# Altium footprint library 排针-排母.PcbLib: 177 footprints (part 11 of 12)
Each footprint in its own frame and in the unit in brackets; x right, y up, seen from the top. Pads: shape width x height; smd on the part's side, far side on the other; paste and mask are expansions set on the pad; w line width, h text height; cw(c..) or ccw(c..) is an arc to the next point about the centre after c.
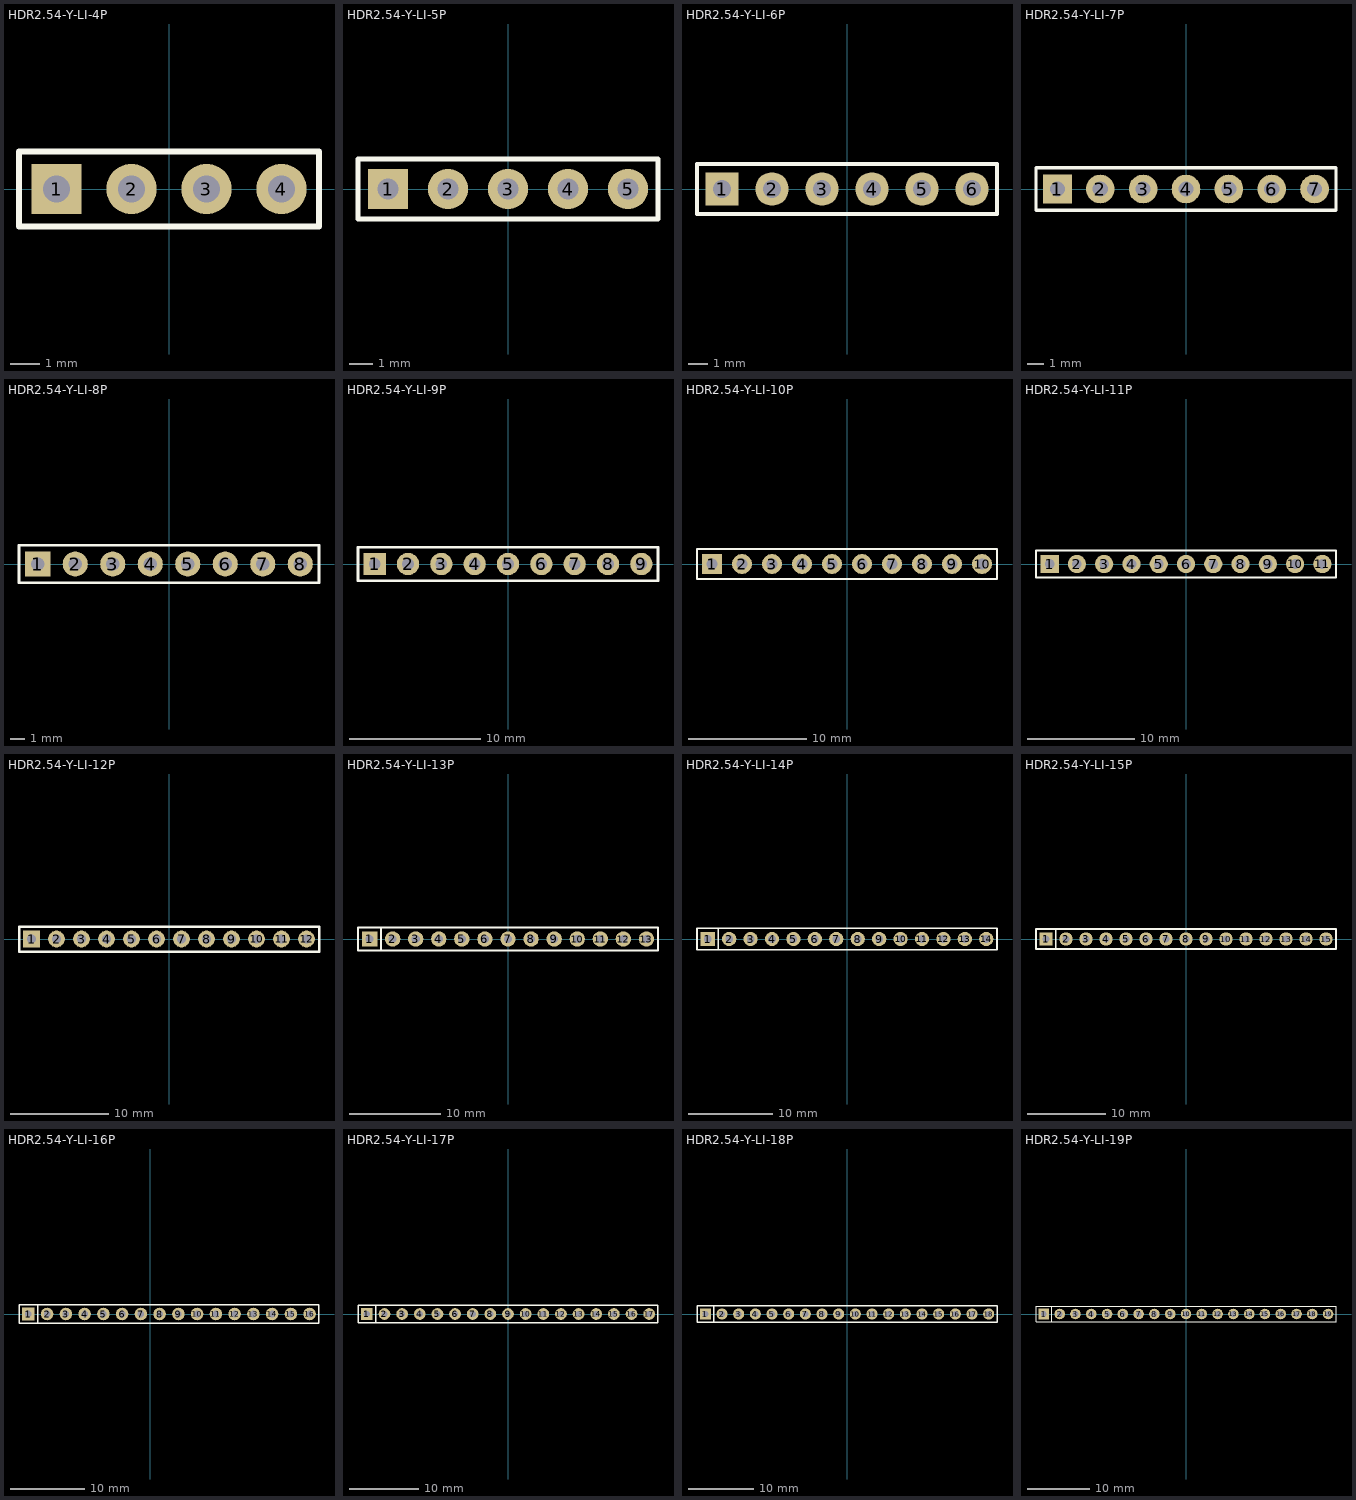
[diagram p10: the footprints below, top view; thin cyan lines are the x and y axes]

## HDR2.54-Y-LI-4P [mm] "圆孔排母，4脚"
pads (4):
  rect 1.7x1.7 hole 0.9: 1(-3.81,0)
  round 1.7 hole 0.9: 2(-1.27,0) 3(1.27,0) 4(3.81,0)
Top Overlay:
  lines w0.2: -5.08,-1.27 5.08,-1.27 5.08,1.27 -5.08,1.27 -5.08,-1.27
3D body: height 4.31, standoff -3, extent -5.08,-1.27 -2.54,1.27
3D body: height 4.31, standoff -3, extent -2.54,-1.27 0,1.27
3D body: height 4.31, standoff -3, extent 0,-1.27 2.54,1.27
3D body: height 4.31, standoff -3, extent 2.54,-1.27 5.08,1.27

## HDR2.54-Y-LI-5P [mm] "圆孔排母，5脚"
pads (5):
  rect 1.7x1.7 hole 0.9: 1(-5.08,0)
  round 1.7 hole 0.9: 2(-2.54,0) 3(0,0) 4(2.54,0) 5(5.08,0)
Top Overlay:
  lines w0.2: -6.35,-1.27 6.35,-1.27 6.35,1.27 -6.35,1.27 -6.35,-1.27
3D body: height 4.31, standoff -3, extent 3.81,-1.27 6.35,1.27
3D body: height 4.31, standoff -3, extent 1.27,-1.27 3.81,1.27
3D body: height 4.31, standoff -3, extent -1.27,-1.27 1.27,1.27
3D body: height 4.31, standoff -3, extent -3.81,-1.27 -1.27,1.27
3D body: height 4.31, standoff -3, extent -6.35,-1.27 -3.81,1.27

## HDR2.54-Y-LI-6P [mm] "圆孔排母，6脚"
pads (6):
  rect 1.7x1.7 hole 0.9: 1(-6.35,0)
  round 1.7 hole 0.9: 2(-3.81,0) 3(-1.27,0) 4(1.27,0) 5(3.81,0) 6(6.35,0)
Top Overlay:
  lines w0.2: -7.62,-1.27 7.62,-1.27 7.62,1.27 -7.62,1.27 -7.62,-1.27
3D body: height 4.31, standoff -3, extent -7.62,-1.27 -5.08,1.27
3D body: height 4.31, standoff -3, extent -5.08,-1.27 -2.54,1.27
3D body: height 4.31, standoff -3, extent -2.54,-1.27 0,1.27
3D body: height 4.31, standoff -3, extent 0,-1.27 2.54,1.27
3D body: height 4.31, standoff -3, extent 2.54,-1.27 5.08,1.27
3D body: height 4.31, standoff -3, extent 5.08,-1.27 7.62,1.27

## HDR2.54-Y-LI-7P [mm] "圆孔排母，7脚"
pads (7):
  rect 1.7x1.7 hole 0.9: 1(-7.62,0)
  round 1.7 hole 0.9: 2(-5.08,0) 3(-2.54,0) 4(0,0) 5(2.54,0) 6(5.08,0) 7(7.62,0)
Top Overlay:
  lines w0.2: -8.89,-1.27 8.89,-1.27 8.89,1.27 -8.89,1.27 -8.89,-1.27
3D body: height 4.31, standoff -3, extent -8.89,-1.27 -6.35,1.27
3D body: height 4.31, standoff -3, extent -6.35,-1.27 -3.81,1.27
3D body: height 4.31, standoff -3, extent -3.81,-1.27 -1.27,1.27
3D body: height 4.31, standoff -3, extent -1.27,-1.27 1.27,1.27
3D body: height 4.31, standoff -3, extent 1.27,-1.27 3.81,1.27
3D body: height 4.31, standoff -3, extent 3.81,-1.27 6.35,1.27
3D body: height 4.31, standoff -3, extent 6.35,-1.27 8.89,1.27

## HDR2.54-Y-LI-8P [mm] "圆孔排母，8脚"
pads (8):
  rect 1.7x1.7 hole 0.9: 1(-8.89,0)
  round 1.7 hole 0.9: 2(-6.35,0) 3(-3.81,0) 4(-1.27,0) 5(1.27,0) 6(3.81,0) 7(6.35,0) 8(8.89,0)
Top Overlay:
  lines w0.2: -10.16,-1.27 10.16,-1.27 10.16,1.27 -10.16,1.27 -10.16,-1.27
3D body: height 4.31, standoff -3, extent -10.16,-1.27 -7.62,1.27
3D body: height 4.31, standoff -3, extent -7.62,-1.27 -5.08,1.27
3D body: height 4.31, standoff -3, extent -5.08,-1.27 -2.54,1.27
3D body: height 4.31, standoff -3, extent -2.54,-1.27 0,1.27
3D body: height 4.31, standoff -3, extent 0,-1.27 2.54,1.27
3D body: height 4.31, standoff -3, extent 2.54,-1.27 5.08,1.27
3D body: height 4.31, standoff -3, extent 5.08,-1.27 7.62,1.27
3D body: height 4.31, standoff -3, extent 7.62,-1.27 10.16,1.27

## HDR2.54-Y-LI-9P [mm] "圆孔排母，9脚"
pads (9):
  rect 1.7x1.7 hole 0.9: 1(-10.16,0)
  round 1.7 hole 0.9: 2(-7.62,0) 3(-5.08,0) 4(-2.54,0) 5(0,0) 6(2.54,0) 7(5.08,0) 8(7.62,0) 9(10.16,0)
Top Overlay:
  lines w0.2: -11.43,-1.27 11.43,-1.27 11.43,1.27 -11.43,1.27 -11.43,-1.27
3D body: height 4.31, standoff -3, extent 8.89,-1.27 11.43,1.27
3D body: height 4.31, standoff -3, extent 6.35,-1.27 8.89,1.27
3D body: height 4.31, standoff -3, extent 3.81,-1.27 6.35,1.27
3D body: height 4.31, standoff -3, extent 1.27,-1.27 3.81,1.27
3D body: height 4.31, standoff -3, extent -1.27,-1.27 1.27,1.27
3D body: height 4.31, standoff -3, extent -3.81,-1.27 -1.27,1.27
3D body: height 4.31, standoff -3, extent -6.35,-1.27 -3.81,1.27
3D body: height 4.31, standoff -3, extent -8.89,-1.27 -6.35,1.27
3D body: height 4.31, standoff -3, extent -11.43,-1.27 -8.89,1.27

## HDR2.54-Y-LI-10P [mm] "圆孔排母，10脚"
pads (10):
  rect 1.7x1.7 hole 0.9: 1(-11.43,0)
  round 1.7 hole 0.9: 2(-8.89,0) 3(-6.35,0) 4(-3.81,0) 5(-1.27,0) 6(1.27,0) 7(3.81,0) 8(6.35,0) 9(8.89,0) 10(11.43,0)
Top Overlay:
  lines w0.2: -12.7,-1.27 12.7,-1.27 12.7,1.27 -12.7,1.27 -12.7,-1.27
3D body: height 4.31, standoff -3, extent -12.7,-1.27 -10.16,1.27
3D body: height 4.31, standoff -3, extent -10.16,-1.27 -7.62,1.27
3D body: height 4.31, standoff -3, extent -7.62,-1.27 -5.08,1.27
3D body: height 4.31, standoff -3, extent -5.08,-1.27 -2.54,1.27
3D body: height 4.31, standoff -3, extent -2.54,-1.27 0,1.27
3D body: height 4.31, standoff -3, extent 0,-1.27 2.54,1.27
3D body: height 4.31, standoff -3, extent 2.54,-1.27 5.08,1.27
3D body: height 4.31, standoff -3, extent 5.08,-1.27 7.62,1.27
3D body: height 4.31, standoff -3, extent 7.62,-1.27 10.16,1.27
3D body: height 4.31, standoff -3, extent 10.16,-1.27 12.7,1.27

## HDR2.54-Y-LI-11P [mm] "圆孔排母，11脚"
pads (11):
  rect 1.7x1.7 hole 0.9: 1(-12.7,0)
  round 1.7 hole 0.9: 2(-10.16,0) 3(-7.62,0) 4(-5.08,0) 5(-2.54,0) 6(0,0) 7(2.54,0) 8(5.08,0) 9(7.62,0) 10(10.16,0) 11(12.7,0)
Top Overlay:
  lines w0.2: -13.97,-1.27 13.97,-1.27 13.97,1.27 -13.97,1.27 -13.97,-1.27
3D body: height 4.31, standoff -3, extent -13.97,-1.27 -11.43,1.27
3D body: height 4.31, standoff -3, extent -11.43,-1.27 -8.89,1.27
3D body: height 4.31, standoff -3, extent -8.89,-1.27 -6.35,1.27
3D body: height 4.31, standoff -3, extent -6.35,-1.27 -3.81,1.27
3D body: height 4.31, standoff -3, extent -3.81,-1.27 -1.27,1.27
3D body: height 4.31, standoff -3, extent -1.27,-1.27 1.27,1.27
3D body: height 4.31, standoff -3, extent 1.27,-1.27 3.81,1.27
3D body: height 4.31, standoff -3, extent 3.81,-1.27 6.35,1.27
3D body: height 4.31, standoff -3, extent 6.35,-1.27 8.89,1.27
3D body: height 4.31, standoff -3, extent 8.89,-1.27 11.43,1.27
3D body: height 4.31, standoff -3, extent 11.43,-1.27 13.97,1.27

## HDR2.54-Y-LI-12P [mm] "圆孔排母，12脚"
pads (12):
  rect 1.7x1.7 hole 0.9: 1(-13.97,0)
  round 1.7 hole 0.9: 2(-11.43,0) 3(-8.89,0) 4(-6.35,0) 5(-3.81,0) 6(-1.27,0) 7(1.27,0) 8(3.81,0) 9(6.35,0) 10(8.89,0) 11(11.43,0) 12(13.97,0)
Top Overlay:
  lines w0.254: -15.24,-1.27 15.24,-1.27 15.24,1.27 -15.24,1.27 -15.24,-1.27
3D body: height 4.31, standoff -3, extent 12.7,-1.27 15.24,1.27
3D body: height 4.31, standoff -3, extent 10.16,-1.27 12.7,1.27
3D body: height 4.31, standoff -3, extent 7.62,-1.27 10.16,1.27
3D body: height 4.31, standoff -3, extent 5.08,-1.27 7.62,1.27
3D body: height 4.31, standoff -3, extent 2.54,-1.27 5.08,1.27
3D body: height 4.31, standoff -3, extent 0,-1.27 2.54,1.27
3D body: height 4.31, standoff -3, extent -2.54,-1.27 0,1.27
3D body: height 4.31, standoff -3, extent -5.08,-1.27 -2.54,1.27
3D body: height 4.31, standoff -3, extent -7.62,-1.27 -5.08,1.27
3D body: height 4.31, standoff -3, extent -10.16,-1.27 -7.62,1.27
3D body: height 4.31, standoff -3, extent -12.7,-1.27 -10.16,1.27
3D body: height 4.31, standoff -3, extent -15.24,-1.27 -12.7,1.27

## HDR2.54-Y-LI-13P [mm] "圆孔排母，13脚"
pads (13):
  rect 1.7x1.7 hole 0.9: 1(-15.24,0)
  round 1.7 hole 0.9: 2(-12.7,0) 3(-10.16,0) 4(-7.62,0) 5(-5.08,0) 6(-2.54,0) 7(0,0) 8(2.54,0) 9(5.08,0) 10(7.62,0) 11(10.16,0) 12(12.7,0) 13(15.24,0)
Top Overlay:
  lines w0.2: -13.99,-1.25 -13.99,1.25 ; -16.51,-1.27 -16.51,1.27 -14.605,1.27 16.51,1.27 16.51,-1.27 -16.51,-1.27
3D body: height 4.31, standoff -3, extent -16.51,-1.27 -13.97,1.27
3D body: height 4.31, standoff -3, extent -13.97,-1.27 -11.43,1.27
3D body: height 4.31, standoff -3, extent -11.43,-1.27 -8.89,1.27
3D body: height 4.31, standoff -3, extent -8.89,-1.27 -6.35,1.27
3D body: height 4.31, standoff -3, extent -6.35,-1.27 -3.81,1.27
3D body: height 4.31, standoff -3, extent -3.81,-1.27 -1.27,1.27
3D body: height 4.31, standoff -3, extent -1.27,-1.27 1.27,1.27
3D body: height 4.31, standoff -3, extent 1.27,-1.27 3.81,1.27
3D body: height 4.31, standoff -3, extent 3.81,-1.27 6.35,1.27
3D body: height 4.31, standoff -3, extent 6.35,-1.27 8.89,1.27
3D body: height 4.31, standoff -3, extent 8.89,-1.27 11.43,1.27
3D body: height 4.31, standoff -3, extent 11.43,-1.27 13.97,1.27
3D body: height 4.31, standoff -3, extent 13.97,-1.27 16.51,1.27

## HDR2.54-Y-LI-14P [mm] "圆孔排母，14脚"
pads (14):
  rect 1.7x1.7 hole 0.9: 1(-16.51,0)
  round 1.7 hole 0.9: 2(-13.97,0) 3(-11.43,0) 4(-8.89,0) 5(-6.35,0) 6(-3.81,0) 7(-1.27,0) 8(1.27,0) 9(3.81,0) 10(6.35,0) 11(8.89,0) 12(11.43,0) 13(13.97,0) 14(16.51,0)
Top Overlay:
  lines w0.2: -15.26,-1.25 -15.26,1.25 ; -17.78,-1.27 17.78,-1.27 17.78,1.27 -15.875,1.27 -17.78,1.27 -17.78,-1.27
3D body: height 4.31, standoff -3, extent -17.78,-1.27 -15.24,1.27
3D body: height 4.31, standoff -3, extent -15.24,-1.27 -12.7,1.27
3D body: height 4.31, standoff -3, extent -12.7,-1.27 -10.16,1.27
3D body: height 4.31, standoff -3, extent -10.16,-1.27 -7.62,1.27
3D body: height 4.31, standoff -3, extent -7.62,-1.27 -5.08,1.27
3D body: height 4.31, standoff -3, extent -5.08,-1.27 -2.54,1.27
3D body: height 4.31, standoff -3, extent -2.54,-1.27 0,1.27
3D body: height 4.31, standoff -3, extent 0,-1.27 2.54,1.27
3D body: height 4.31, standoff -3, extent 2.54,-1.27 5.08,1.27
3D body: height 4.31, standoff -3, extent 5.08,-1.27 7.62,1.27
3D body: height 4.31, standoff -3, extent 7.62,-1.27 10.16,1.27
3D body: height 4.31, standoff -3, extent 10.16,-1.27 12.7,1.27
3D body: height 4.31, standoff -3, extent 12.7,-1.27 15.24,1.27
3D body: height 4.31, standoff -3, extent 15.24,-1.27 17.78,1.27

## HDR2.54-Y-LI-15P [mm] "圆孔排母，15脚"
pads (15):
  rect 1.7x1.7 hole 0.9: 1(-17.78,0)
  round 1.7 hole 0.9: 2(-15.24,0) 3(-12.7,0) 4(-10.16,0) 5(-7.62,0) 6(-5.08,0) 7(-2.54,0) 8(0,0) 9(2.54,0) 10(5.08,0) 11(7.62,0) 12(10.16,0) 13(12.7,0) 14(15.24,0) 15(17.78,0)
Top Overlay:
  lines w0.2: -16.53,-1.25 -16.53,1.25 ; -19.05,-1.27 -19.05,1.27 -17.145,1.27 19.05,1.27 19.05,-1.27 -19.05,-1.27
3D body: height 4.31, standoff -3, extent -19.05,-1.27 -16.51,1.27
3D body: height 4.31, standoff -3, extent -16.51,-1.27 -13.97,1.27
3D body: height 4.31, standoff -3, extent -13.97,-1.27 -11.43,1.27
3D body: height 4.31, standoff -3, extent -11.43,-1.27 -8.89,1.27
3D body: height 4.31, standoff -3, extent -8.89,-1.27 -6.35,1.27
3D body: height 4.31, standoff -3, extent -6.35,-1.27 -3.81,1.27
3D body: height 4.31, standoff -3, extent -3.81,-1.27 -1.27,1.27
3D body: height 4.31, standoff -3, extent -1.27,-1.27 1.27,1.27
3D body: height 4.31, standoff -3, extent 1.27,-1.27 3.81,1.27
3D body: height 4.31, standoff -3, extent 3.81,-1.27 6.35,1.27
3D body: height 4.31, standoff -3, extent 6.35,-1.27 8.89,1.27
3D body: height 4.31, standoff -3, extent 8.89,-1.27 11.43,1.27
3D body: height 4.31, standoff -3, extent 11.43,-1.27 13.97,1.27
3D body: height 4.31, standoff -3, extent 13.97,-1.27 16.51,1.27
3D body: height 4.31, standoff -3, extent 16.51,-1.27 19.05,1.27

## HDR2.54-Y-LI-16P [mm] "圆孔排母，16脚"
pads (16):
  rect 1.7x1.7 hole 0.9: 1(-16.51,0)
  round 1.7 hole 0.9: 2(-13.97,0) 3(-11.43,0) 4(-8.89,0) 5(-6.35,0) 6(-3.81,0) 7(-1.27,0) 8(1.27,0) 9(3.81,0) 10(6.35,0) 11(8.89,0) 12(11.43,0) 13(13.97,0) 14(16.51,0) 15(19.05,0) 16(21.59,0)
Top Overlay:
  lines w0.2: -15.26,-1.25 -15.26,1.25 ; -17.78,-1.27 -17.78,1.27 -15.875,1.27 22.86,1.27 22.86,-1.27 -17.78,-1.27
3D body: height 4.31, standoff -3, extent -17.78,-1.27 -15.24,1.27
3D body: height 4.31, standoff -3, extent -15.24,-1.27 -12.7,1.27
3D body: height 4.31, standoff -3, extent -12.7,-1.27 -10.16,1.27
3D body: height 4.31, standoff -3, extent -10.16,-1.27 -7.62,1.27
3D body: height 4.31, standoff -3, extent -7.62,-1.27 -5.08,1.27
3D body: height 4.31, standoff -3, extent -5.08,-1.27 -2.54,1.27
3D body: height 4.31, standoff -3, extent -2.54,-1.27 0,1.27
3D body: height 4.31, standoff -3, extent 0,-1.27 2.54,1.27
3D body: height 4.31, standoff -3, extent 2.54,-1.27 5.08,1.27
3D body: height 4.31, standoff -3, extent 5.08,-1.27 7.62,1.27
3D body: height 4.31, standoff -3, extent 7.62,-1.27 10.16,1.27
3D body: height 4.31, standoff -3, extent 10.16,-1.27 12.7,1.27
3D body: height 4.31, standoff -3, extent 12.7,-1.27 15.24,1.27
3D body: height 4.31, standoff -3, extent 15.24,-1.27 17.78,1.27
3D body: height 4.31, standoff -3, extent 17.78,-1.27 20.32,1.27
3D body: height 4.31, standoff -3, extent 20.32,-1.27 22.86,1.27

## HDR2.54-Y-LI-17P [mm] "圆孔排母，17脚"
pads (17):
  rect 1.7x1.7 hole 0.9: 1(-20.32,0)
  round 1.7 hole 0.9: 2(-17.78,0) 3(-15.24,0) 4(-12.7,0) 5(-10.16,0) 6(-7.62,0) 7(-5.08,0) 8(-2.54,0) 9(0,0) 10(2.54,0) 11(5.08,0) 12(7.62,0) 13(10.16,0) 14(12.7,0) 15(15.24,0) 16(17.78,0) 17(20.32,0)
Top Overlay:
  lines w0.2: -21.59,-1.27 -21.59,1.27 -19.685,1.27 21.59,1.27 21.59,-1.27 -19.07,-1.27 -19.07,1.25
  lines w0.203: -21.59,-1.27 -18.796,-1.27
3D body: height 4.31, standoff -3, extent -21.59,-1.27 -19.05,1.27
3D body: height 4.31, standoff -3, extent -19.05,-1.27 -16.51,1.27
3D body: height 4.31, standoff -3, extent -16.51,-1.27 -13.97,1.27
3D body: height 4.31, standoff -3, extent -13.97,-1.27 -11.43,1.27
3D body: height 4.31, standoff -3, extent -11.43,-1.27 -8.89,1.27
3D body: height 4.31, standoff -3, extent -8.89,-1.27 -6.35,1.27
3D body: height 4.31, standoff -3, extent -6.35,-1.27 -3.81,1.27
3D body: height 4.31, standoff -3, extent -3.81,-1.27 -1.27,1.27
3D body: height 4.31, standoff -3, extent -1.27,-1.27 1.27,1.27
3D body: height 4.31, standoff -3, extent 1.27,-1.27 3.81,1.27
3D body: height 4.31, standoff -3, extent 3.81,-1.27 6.35,1.27
3D body: height 4.31, standoff -3, extent 6.35,-1.27 8.89,1.27
3D body: height 4.31, standoff -3, extent 8.89,-1.27 11.43,1.27
3D body: height 4.31, standoff -3, extent 11.43,-1.27 13.97,1.27
3D body: height 4.31, standoff -3, extent 13.97,-1.27 16.51,1.27
3D body: height 4.31, standoff -3, extent 16.51,-1.27 19.05,1.27
3D body: height 4.31, standoff -3, extent 19.05,-1.27 21.59,1.27

## HDR2.54-Y-LI-18P [mm] "圆孔排母，18脚"
pads (18):
  rect 1.7x1.7 hole 0.9: 1(-21.59,0)
  round 1.7 hole 0.9: 2(-19.05,0) 3(-16.51,0) 4(-13.97,0) 5(-11.43,0) 6(-8.89,0) 7(-6.35,0) 8(-3.81,0) 9(-1.27,0) 10(1.27,0) 11(3.81,0) 12(6.35,0) 13(8.89,0) 14(11.43,0) 15(13.97,0) 16(16.51,0) 17(19.05,0) 18(21.59,0)
Top Overlay:
  lines w0.2: -21.082,1.27 22.86,1.27 22.86,-1.27 -22.86,-1.27 -22.86,1.27 -20.955,1.27 ; -20.34,-1.25 -20.34,1.25
3D body: height 4.31, standoff -3, extent -22.86,-1.27 -20.32,1.27
3D body: height 4.31, standoff -3, extent -20.32,-1.27 -17.78,1.27
3D body: height 4.31, standoff -3, extent -17.78,-1.27 -15.24,1.27
3D body: height 4.31, standoff -3, extent -15.24,-1.27 -12.7,1.27
3D body: height 4.31, standoff -3, extent -12.7,-1.27 -10.16,1.27
3D body: height 4.31, standoff -3, extent -10.16,-1.27 -7.62,1.27
3D body: height 4.31, standoff -3, extent -7.62,-1.27 -5.08,1.27
3D body: height 4.31, standoff -3, extent -5.08,-1.27 -2.54,1.27
3D body: height 4.31, standoff -3, extent -2.54,-1.27 0,1.27
3D body: height 4.31, standoff -3, extent 0,-1.27 2.54,1.27
3D body: height 4.31, standoff -3, extent 2.54,-1.27 5.08,1.27
3D body: height 4.31, standoff -3, extent 5.08,-1.27 7.62,1.27
3D body: height 4.31, standoff -3, extent 7.62,-1.27 10.16,1.27
3D body: height 4.31, standoff -3, extent 10.16,-1.27 12.7,1.27
3D body: height 4.31, standoff -3, extent 12.7,-1.27 15.24,1.27
3D body: height 4.31, standoff -3, extent 15.24,-1.27 17.78,1.27
3D body: height 4.31, standoff -3, extent 17.78,-1.27 20.32,1.27
3D body: height 4.31, standoff -3, extent 20.32,-1.27 22.86,1.27

## HDR2.54-Y-LI-19P [mm] "圆孔排母，19脚"
pads (19):
  rect 1.7x1.7 hole 0.9: 1(-22.86,0)
  round 1.7 hole 0.9: 2(-20.32,0) 3(-17.78,0) 4(-15.24,0) 5(-12.7,0) 6(-10.16,0) 7(-7.62,0) 8(-5.08,0) 9(-2.54,0) 10(0,0) 11(2.54,0) 12(5.08,0) 13(7.62,0) 14(10.16,0) 15(12.7,0) 16(15.24,0) 17(17.78,0) 18(20.32,0) 19(22.86,0)
Top Overlay:
  lines w0.2: -21.61,-1.25 -21.61,1.25 ; -24.13,-1.27 -24.13,1.27 -22.225,1.27 24.13,1.27 24.13,-1.27 -24.13,-1.27
3D body: height 4.31, standoff -3, extent -24.13,-1.27 -21.59,1.27
3D body: height 4.31, standoff -3, extent -21.59,-1.27 -19.05,1.27
3D body: height 4.31, standoff -3, extent -19.05,-1.27 -16.51,1.27
3D body: height 4.31, standoff -3, extent -16.51,-1.27 -13.97,1.27
3D body: height 4.31, standoff -3, extent -13.97,-1.27 -11.43,1.27
3D body: height 4.31, standoff -3, extent -11.43,-1.27 -8.89,1.27
3D body: height 4.31, standoff -3, extent -8.89,-1.27 -6.35,1.27
3D body: height 4.31, standoff -3, extent -6.35,-1.27 -3.81,1.27
3D body: height 4.31, standoff -3, extent -3.81,-1.27 -1.27,1.27
3D body: height 4.31, standoff -3, extent -1.27,-1.27 1.27,1.27
3D body: height 4.31, standoff -3, extent 1.27,-1.27 3.81,1.27
3D body: height 4.31, standoff -3, extent 3.81,-1.27 6.35,1.27
3D body: height 4.31, standoff -3, extent 6.35,-1.27 8.89,1.27
3D body: height 4.31, standoff -3, extent 8.89,-1.27 11.43,1.27
3D body: height 4.31, standoff -3, extent 11.43,-1.27 13.97,1.27
3D body: height 4.31, standoff -3, extent 13.97,-1.27 16.51,1.27
3D body: height 4.31, standoff -3, extent 16.51,-1.27 19.05,1.27
3D body: height 4.31, standoff -3, extent 19.05,-1.27 21.59,1.27
3D body: height 4.31, standoff -3, extent 21.59,-1.27 24.13,1.27